# Altium footprint library 6332[2512].PcbLib: 3 footprints
Each footprint in its own frame and in the unit in brackets; x right, y up, seen from the top. Pads: shape width x height; smd on the part's side, far side on the other; paste and mask are expansions set on the pad; w line width, h text height; cw(c..) or ccw(c..) is an arc to the next point about the centre after c.
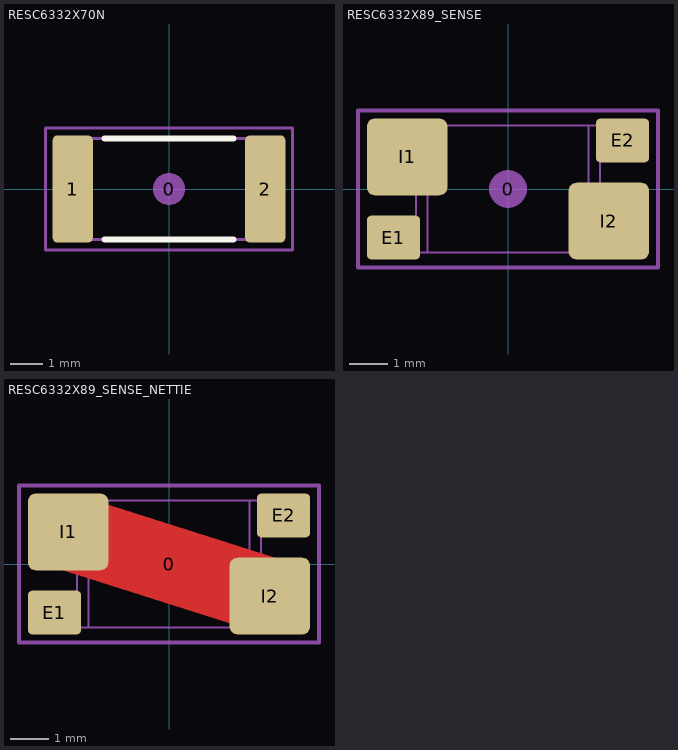
[diagram p0: the footprints below, top view; thin cyan lines are the x and y axes]

## RESC6332X70N [mm] "Chip Resistor, Body 6.3x3.2mm, 2512, IPC Medium Density"
height 0.7
pads (3):
  round 1 on Mech15: 0(0,0)
  rrect25% 1.25x3.35 smd: 1(-3,0) 2(3,0)
Top Overlay:
  lines w0.2: -2,-1.575 2,-1.575 ; -2,1.575 2,1.575
Mechanical 13:
  lines w0.1: -3.15,-1.575 -3.15,1.575 3.15,1.575 3.15,-1.575 -3.15,-1.575
Mechanical 15:
  lines w0.1: -3.85,-1.9 -3.85,1.9 3.85,1.9 3.85,-1.9 -3.85,-1.9
3D body: height 0.69, standoff -0.01, extent -3.3,-1.7 3.3,1.7

## RESC6332X89_SENSE [mil] "SMD Sense Resistor with Kelvin terminations, Body 6.3x3.2mm, 2512, IPC Medium Density"
height 35.04
pads (5):
  round 39.37 on Mech15: 0(0,0)
  rrect20% 55x45 smd paste-27.56: E1(-118,-50) E2(118,50)
  rrect20% 83x79 smd paste-43.31: I1(-104,33) I2(104,-33)
Mechanical 13:
  circle w1.97: c0,0 r9.84
  lines w1.97: -82.91,-65.45 -82.91,65.45 ; 82.91,-65.45 82.91,65.45 ; -129.92,-65.45 -129.92,-31.99 -94.72,-31.99 -94.72,1.48 -129.92,1.48 -129.92,65.45 129.92,65.45 129.92,31.99 94.72,31.99 94.72,-1.48 129.92,-1.48 129.92,-65.45 -129.92,-65.45
Mechanical 15:
  lines w3.94: -154.53,-80.71 -154.53,80.71 154.53,80.71 154.53,-80.71 -154.53,-80.71
3D body: height 34.84, standoff 0, extent -129.91,-65.45 129.93,65.46

## RESC6332X89_SENSE_NETTIE [mil] "SMD Sense Resistor with Kelvin terminations, Body 6.3x3.2mm, 2512, IPC Medium Density"
height 35.04
pads (5):
  round 39.37 on Mech15: 0(0,0)
  rrect20% 55x45 smd paste-27.56: E1(-118,-50) E2(118,50)
  rrect20% 83x79 smd paste-43.31: I1(-104,33) I2(104,-33)
Top Layer:
  lines w78.74: -104,33 104,-33
Mechanical 13:
  circle w1.97: c0,0 r9.84
  lines w1.97: -82.91,-65.45 -82.91,65.45 ; 82.91,-65.45 82.91,65.45 ; -129.92,-65.45 -129.92,-31.99 -94.72,-31.99 -94.72,1.48 -129.92,1.48 -129.92,65.45 129.92,65.45 129.92,31.99 94.72,31.99 94.72,-1.48 129.92,-1.48 129.92,-65.45 -129.92,-65.45
Mechanical 15:
  lines w3.94: -154.53,-80.71 -154.53,80.71 154.53,80.71 154.53,-80.71 -154.53,-80.71
3D body: height 34.84, standoff 0, extent -129.91,-65.45 129.93,65.46